# Altium footprint library 2-SMD(5.0x3.2mm).PcbLib: 1 footprints
Each footprint in its own frame and in the unit in brackets; x right, y up, seen from the top. Pads: shape width x height; smd on the part's side, far side on the other; paste and mask are expansions set on the pad; w line width, h text height; cw(c..) or ccw(c..) is an arc to the next point about the centre after c.
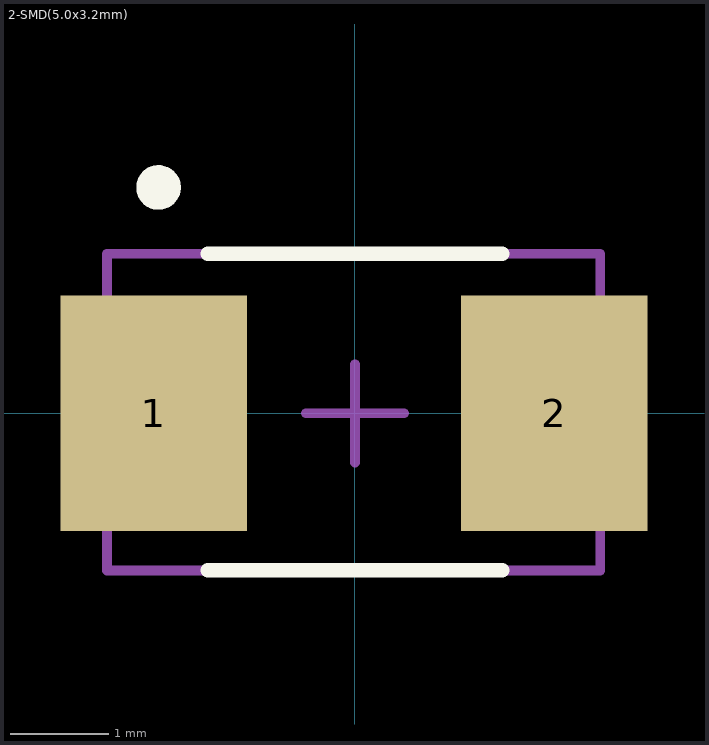
[diagram p0: the footprint, top view; thin cyan lines are the x and y axes]

## 2-SMD(5.0x3.2mm) [mm]
pads (2):
  rect 1.9x2.4 smd: 1(-2.05,0) 2(2.032,0)
Top Overlay:
  circle w0.254: c-2,2.3 r0.1
  lines w0.15: -1.5,-1.6 1.5,-1.6 ; -1.5,1.625 1.5,1.625
Mechanical 13:
  lines w0.1: -2.525,-1.6 -2.525,1.625 2.5,1.625 2.5,-1.6 -2.525,-1.6
Mechanical 15:
  lines w0.1: -0.5,0 0,0 ; 0,-0.5 0,0 ; 0,0 0,0.5 0,0 ; 0,0 0.5,0 0,0
3D body "2-SMD(5.0x3.2mm).step": height 1.3, standoff 0, extent -2.5,-1.6 2.5,1.6